# EAGLE library part MASWSS0192 (library NewSDR)
Ma-Com GaAs MMIC SPDT Switch DC - 3 Ghz
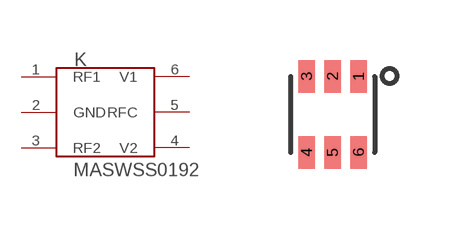
[diagram p96: symbol with the pads of SC-70_M; footprint SC-70_M]

Designator prefix K

## MASWSS0192  [SC-70_M]
1  RF1
2  GND  pwr
3  RF2
4  V2  in
5  RFC
6  V1  in

## Footprint SC-70_M (pad centres in mm)
smd 0.406 x 0.813: 1 0.65,0.95; 2 0,0.95; 3 -0.65,0.95; 4 -0.65,-0.95; 5 0,-0.95; 6 0.65,-0.95